# Altium footprint library EECS430PhasedArray.PcbLib: 56 footprints (part 4 of 4)
Each footprint in its own frame and in the unit in brackets; x right, y up, seen from the top. Pads: shape width x height; smd on the part's side, far side on the other; paste and mask are expansions set on the pad; w line width, h text height; cw(c..) or ccw(c..) is an arc to the next point about the centre after c.
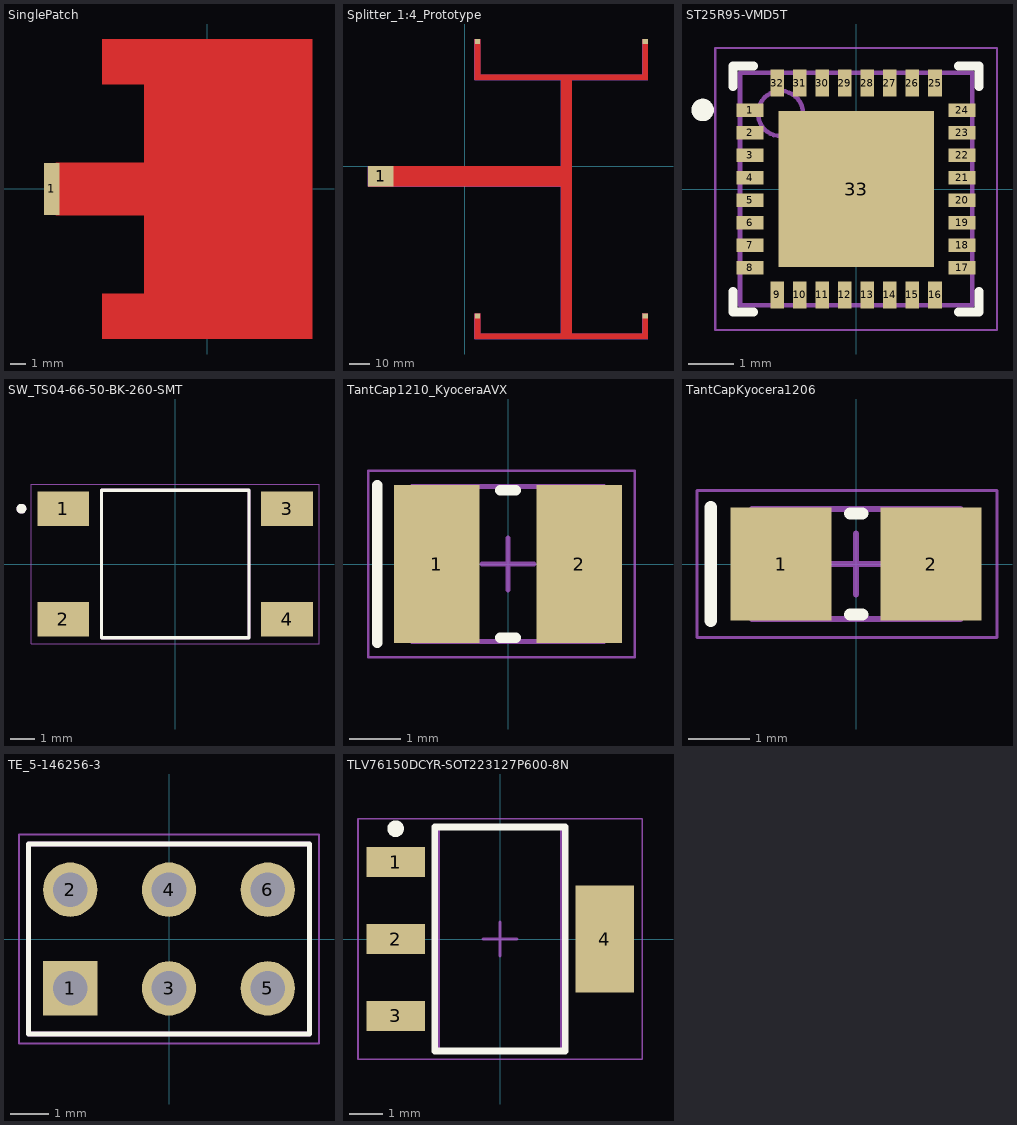
[diagram p3: the footprints below, top view; thin cyan lines are the x and y axes]

## SinglePatch [mm]
pads (1):
  rect 1x3.457 smd paste-2539.97 mask-10: 1(-10.262,0)
Top Layer:
  region: -6.935,9.885 -6.935,6.915 -4.159,6.915 -4.159,1.728 -10.009,1.728 -10.009,-1.729 -4.159,-1.729 -4.159,-6.915 -6.935,-6.915 -6.935,-9.885 6.917,-9.885 6.917,9.885

## Splitter_1:4_Prototype [mm] "Prototype copper section for 1:4 splitter"
pads (5):
  rect 12.7x10.16 smd: 1(-41.91,-5.08)
  rect 2.54x2.54 smd: 2(6.35,62.23) 3(90.158,62.178) 4(6.35,-74.93) 5(90.17,-74.93)
Top Layer:
  region: -48.26,0 48.26,0 48.26,43.18 5.08,43.18 5.08,63.5 7.62,63.5 7.62,45.72 88.9,45.72 88.9,63.5 91.44,63.5 91.44,43.18 53.34,43.18 53.34,-83.82 88.9,-83.82 88.9,-73.66 91.44,-73.66 91.44,-86.36 5.08,-86.36 5.08,-73.66 7.62,-73.66 7.62,-83.82 48.26,-83.82 48.26,-10.16 -48.26,-10.16
Top Courtyard:
  lines w0.1: -48.26,-10.16 -48.26,0 48.26,0 48.26,43.18 5.08,43.18 5.08,63.5 7.62,63.5 7.62,45.72 88.9,45.72 88.9,63.5 91.44,63.5 91.44,43.18 53.34,43.18 53.34,-83.82 88.9,-83.82 88.9,-73.66 91.44,-73.66 91.44,-86.36 5.08,-86.36 5.08,-73.66 7.62,-73.66 7.62,-83.82 48.26,-83.82 48.26,-10.16 -48.26,-10.16

## ST25R95-VMD5T [mm] "QFN, 32-Leads, Body 5.00x5.00mm, Pitch 0.50mm, Thermal Pad 3.45x3.45mm, IPC Medium Density"
height 1
pads (33):
  rect 0.6x0.3 smd: 1(-2.35,1.75) 2(-2.35,1.25) 3(-2.35,0.75) 4(-2.35,0.25) 5(-2.35,-0.25) 6(-2.35,-0.75) 7(-2.35,-1.25) 8(-2.35,-1.75) 17(2.35,-1.75) 18(2.35,-1.25) 19(2.35,-0.75) 20(2.35,-0.25) 21(2.35,0.25) 22(2.35,0.75) 23(2.35,1.25) 24(2.35,1.75)
  rect 0.3x0.6 smd: 9(-1.75,-2.35) 10(-1.25,-2.35) 11(-0.75,-2.35) 12(-0.25,-2.35) 13(0.25,-2.35) 14(0.75,-2.35) 15(1.25,-2.35) 16(1.75,-2.35) 25(1.75,2.35) 26(1.25,2.35) 27(0.75,2.35) 28(0.25,2.35) 29(-0.25,2.35) 30(-0.75,2.35) 31(-1.25,2.35) 32(-1.75,2.35)
  rect 3.45x3.45 smd: 33(0,0)
Top Overlay:
  circle w0.25: c-3.404,1.753 r0.125
  lines w0.2: -2.725,-2.275 -2.725,-2.725 -2.275,-2.725 ; -2.725,2.275 -2.725,2.725 -2.275,2.725 ; 2.275,-2.725 2.725,-2.725 2.725,-2.275 ; 2.275,2.725 2.725,2.725 2.725,2.275
Top Assembly:
  circle w0.1: c-1.675,1.675 r0.5
  lines w0.1: -2.575,-2.575 2.575,-2.575 2.575,2.575 -2.575,2.575 -2.575,-2.575
Top Courtyard:
  lines w0.05: -3.125,-3.125 3.125,-3.125 3.125,3.125 -3.125,3.125 -3.125,-3.125
  lines w0.1: -0.5,0 0.5,0 ; 0,-0.5 0,0.5
3D body "ST25R95-VMD5T-new.step": height 1, standoff 0, extent -2.576,-2.576 2.576,2.576

## SW_TS04-66-50-BK-260-SMT [mm]
pads (4):
  rect 2.1x1.4 smd: 1(-4.55,2.25) 2(-4.55,-2.25) 3(4.55,2.25) 4(4.55,-2.25)
Top Overlay:
  circle w0.2: c-6.25,2.25 r0.1
  lines w0.127: -3,-3 3,-3 3,3 -3,3 -3,-3
Top 3D Body:
  circle w0.2: c-6.25,2.25 r0.1
  lines w0.127: -3,-3 3,-3 3,3 -3,3 -3,-3
Top Courtyard:
  lines w0.05: -5.85,-3.25 5.85,-3.25 5.85,3.25 -5.85,3.25 -5.85,-3.25
3D body "CUI_DEVICES_TS04-66-50-BK-260-SMT.step": height 5.11, standoff 0.01, extent -5,-3 5,3

## TantCap1210_KyoceraAVX [mm]
height 2.1
pads (2):
  rect 1.65x3.05 smd: 1(-1.375,0) 2(1.375,0)
Top Overlay:
  lines w0.2: -2.525,-1.525 -2.525,1.525 ; -0.15,-1.425 0.15,-1.425 ; -0.15,1.425 0.15,1.425
Top Assembly:
  lines w0.1: -1.85,-1.5 -1.85,1.5 1.85,1.5 1.85,-1.5 -1.85,-1.5
Top Courtyard:
  lines w0.05: -2.7,-1.8 2.45,-1.8 2.45,1.8 -2.7,1.8 -2.7,-1.8
  lines w0.1: -0.5,0 0.5,0 ; 0,-0.5 0,0.5
3D body "TantCap1210_KyoceraAVX.step": height 2.1, standoff 0, extent -1.85,-1.5 1.85,1.5

## TantCapKyocera1206 [mm] "1206 Tantalum Capacitor Kyocera"
height 1.8
pads (2):
  rect 1.65x1.85 smd: 1(-1.225,0) 2(1.225,0)
Top Overlay:
  lines w0.2: -2.375,-0.925 -2.375,0.925 ; -0.1,-0.825 0.1,-0.825 ; -0.1,0.825 0.1,0.825
Top Assembly:
  lines w0.1: -1.7,-0.9 1.7,-0.9 1.7,0.9 -1.7,0.9 -1.7,-0.9
Top Courtyard:
  lines w0.05: -2.6,-1.2 -2.6,1.2 2.3,1.2 2.3,-1.2 -2.6,-1.2
  lines w0.1: -0.5,0 0.5,0 ; 0,-0.5 0,0.5
3D body "TantCapKyocera1206.step": height 1.8, standoff 0, extent -1.7,-0.9 1.7,0.9

## TE_5-146256-3 [mm]
pads (6):
  rect 1.398x1.398 hole 0.89: 1(-2.54,-1.27)
  round 1.398 hole 0.89: 2(-2.54,1.27) 3(0,-1.27) 4(0,1.27) 5(2.54,-1.27) 6(2.54,1.27)
Top Overlay:
  lines w0.127: -3.61,-2.44 3.61,-2.44 3.61,2.44 -3.61,2.44 -3.61,-2.44
Top 3D Body:
  lines w0.127: -3.61,-2.44 3.61,-2.44 3.61,2.44 -3.61,2.44 -3.61,-2.44
Top Courtyard:
  lines w0.05: -3.86,-2.69 3.86,-2.69 3.86,2.69 -3.86,2.69 -3.86,-2.69
3D body "5-146256-3.step": height 8.14, standoff -3.04, extent -3.607,-2.438 3.607,2.439

## TLV76150DCYR-SOT223127P600-8N [mm]
height 1.8
pads (4):
  rect 1.75x0.9 smd: 1(-3.125,2.3) 2(-3.125,0) 3(-3.125,-2.3)
  rect 1.75x3.2 smd: 4(3.125,0)
Top Overlay:
  circle w0.25: c-3.125,3.3 r0.125
  lines w0.2: -1.95,-3.35 -1.95,3.35 1.95,3.35 1.95,-3.35 -1.95,-3.35
Top Assembly:
  lines w0.1: -1.85,-3.35 -1.85,3.35 1.85,3.35 1.85,-3.35 -1.85,-3.35
Top Courtyard:
  lines w0.05: -4.25,-3.6 -4.25,3.6 4.25,3.6 4.25,-3.6 -4.25,-3.6
  lines w0.1: -0.5,0 0.5,0 ; 0,-0.5 0,0.5
3D body "TLV76150DCYR-SOT223127P600-8N.step": height 1.8, standoff 0, extent -3.5,-3.35 3.5,3.35